# EAGLE library part BQ29700 (library stepOSP)
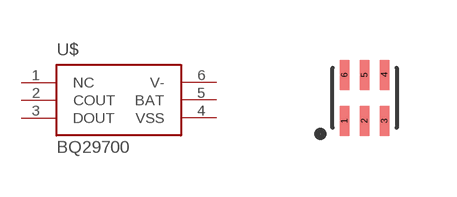
[diagram p42: symbol with the pads of BQ29700; footprint BQ29700]

Designator prefix U$

## BQ29700  [BQ29700]
1  NC
2  COUT
3  DOUT
4  VSS
5  BAT
6  V-

## Footprint BQ29700 (pad centres in mm)
smd 0.23 x 0.75: 1 -0.5,-0.575; 2 0,-0.575; 3 0.5,-0.575; 4 0.5,0.575; 5 0,0.575; 6 -0.5,0.575